# EAGLE library part PINHEAD_1X10 (library pinhead)
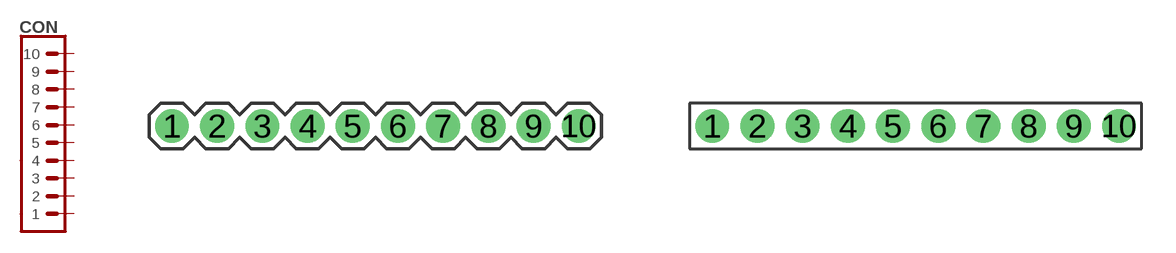
[diagram p1: symbol with the pads of 1X10-PTH_2; footprints 1X10-PTH_2, 1X10-PTH_2-FEMALE]

Designator prefix CON

## PINHEAD_1X10-2  [1X10-PTH_2]
1  1  pas
2  2  pas
3  3  pas
4  4  pas
5  5  pas
6  6  pas
7  7  pas
8  8  pas
9  9  pas
10  10  pas

## PINHEAD_1X10-2-FEMALE (DIGIKEY#: S5751-10-ND; MANF: Sullins Connector Solutions; MANF#: NPPN101BFCN-RC)  [1X10-PTH_2-FEMALE]
Pads as for 1X10-PTH_2

## Footprint 1X10-PTH_2 (pad centres in mm)
drill 0.8 pad 1.5: 1 -9,0; 2 -7,0; 3 -5,0; 4 -3,0; 5 -1,0; 6 1,0; 7 3,0; 8 5,0; 9 7,0; 10 9,0

## Footprint 1X10-PTH_2-FEMALE (pad centres in mm)
drill 0.8 pad 1.5: 1 -9,0; 2 -7,0; 3 -5,0; 4 -3,0; 5 -1,0; 6 1,0; 7 3,0; 8 5,0; 9 7,0; 10 9,0